# EAGLE library part RELAY_DPDT (library KWC_parts-3)
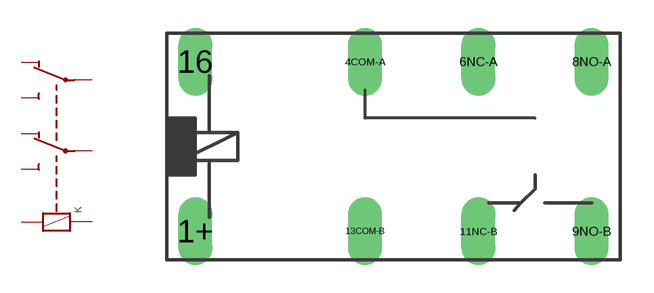
[diagram p1: symbol with the pads of G5V-2; footprint G5V-2]

Designator prefix K

## RELAY_DPDT  [G5V-2]
1+  1  pas
4COM-A  7COM  pas
6NC-A  10NC  pas
8NO-A  12NO  pas
9NO-B  12NO1  pas
11NC-B  10NC1  pas
13COM-B  7COM1  pas
16  6-  pas

## Footprint G5V-2 (pad centres in mm)
drill 1.016 long: 1+ -5.08,-3.81; 4COM-A 2.54,3.81; 6NC-A 7.62,3.81; 8NO-A 12.7,3.81; 9NO-B 12.7,-3.81; 11NC-B 7.62,-3.81; 13COM-B 2.54,-3.81; 16 -5.08,3.81